# Altium schematic symbol library Shelestov_Connectors.SchLib: 25 symbols
Pins are listed as number, name and electrical type; pins without a type are passive.

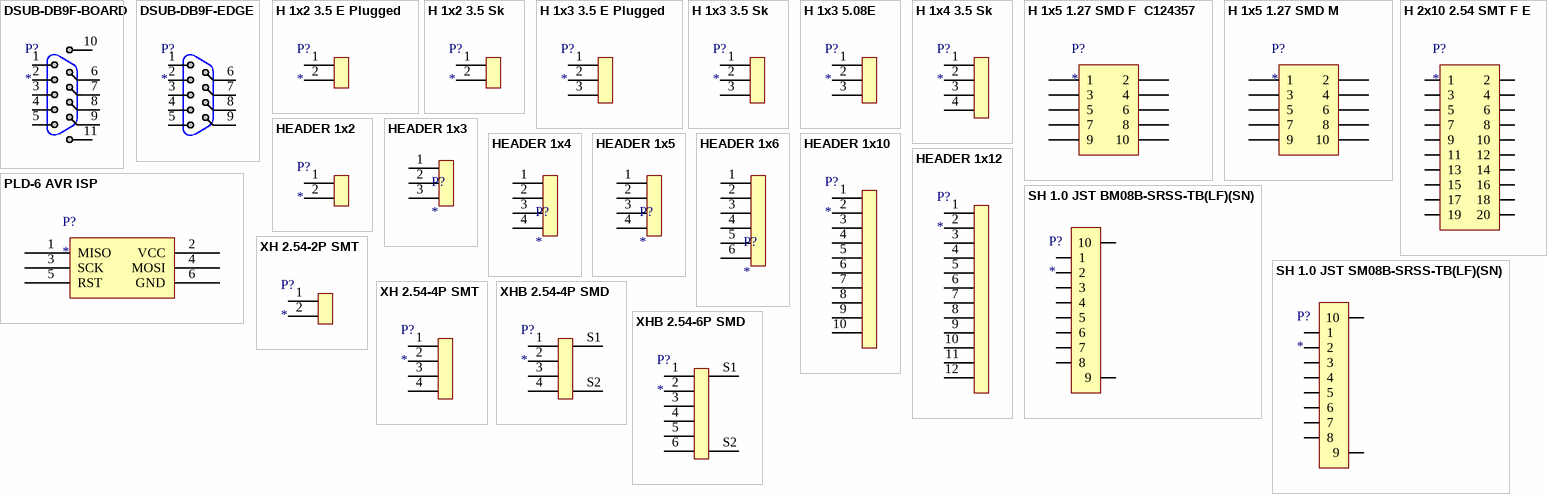
[diagram p0: symbols DSUB-DB9F-BOARD to XHB 2.54-6P SMD]

## DSUB-DB9F-BOARD
designator P?
MP: DS1037-09FNAKT74-0CC; MF: CONNFLY Elec; LCSC: C75749; ComponentLink1Description: URLLCSC; ComponentLink1URL: https://lcsc.com/product-detail/D-Sub-Connectors_CONNFLY-Elec-DS1037-09FNAKT74-0CC_C75749.html; PriceLCSC: 0.2741
footprint DB9F_Board
pins: 1, 2, 3, 4, 5, 6, 7, 8, 9, 10, 11

## DSUB-DB9F-EDGE
designator P?
MP: DS1033-09FUNSiSS-CT; MF: CONNFLY Elec; LCSC: C75748; ComponentLink1Description: URLLCSC; ComponentLink1URL: https://lcsc.com/product-detail/D-Sub-Connectors_CONNFLY-Elec-DS1033-09FUNSiSS-CT_C75748.html; PriceLCSC: 0.1305
footprint DB9F_EDGE
pins: 1, 2, 3, 4, 5, 6, 7, 8, 9

## H 1x2 3.5 E Plugged
designator P?
Degson edge connector 3.5 mm 2 pin; ComponentLink1Description: URLLCSC
footprint WJ15EDGRC-3.5-2P Ningbo
pins: 1, 2

## H 1x2 3.5 Sk
designator P?
MP: 1751248; MF: Phoenix Contact; LCSC: C89122; ComponentLink1Description: URLLCSC; ComponentLink1URL: https://lcsc.com/product-detail/Pluggable-System-Terminal-Block_Phoenix-Contact_MKDS1-2-3-5_Phoenix-Contact-MKDS1-2-3-5_C89122.html; PriceLCSC: 1.0477
footprint 3.5-02P Phoenix Contact 1751248
pins: 1, 2

## H 1x3 3.5 E Plugged
designator P?
MP: 1751251; MF: Phoenix Contact; LCSC: C91152; ComponentLink1Description: URLLCSC; ComponentLink1URL: https://lcsc.com/product-detail/Pluggable-System-Terminal-Block_Phoenix-Contact_MKDS1-3-3-5_Phoenix-Contact-MKDS1-3-3-5_C91152.html; PriceLCSC: 1.6212
footprint WJ15EDGRC-3.5-3P Ningbo
pins: 1, 2, 3

## H 1x3 3.5 Sk
designator P?
MP: 1751251; MF: Phoenix Contact; LCSC: C91152; ComponentLink1Description: URLLCSC; ComponentLink1URL: https://lcsc.com/product-detail/Pluggable-System-Terminal-Block_Phoenix-Contact_MKDS1-3-3-5_Phoenix-Contact-MKDS1-3-3-5_C91152.html; PriceLCSC: 1.6212
footprint 3.5-03P Phoenix Contact 1751251
pins: 1, 2, 3

## H 1x3 5.08E
designator P?
MP: WJ2EDGR-5.08-3P; MF: Ningbo Kangnex Elec; URLLCSC: https://lcsc.com/product-detail/Pluggable-System-Terminal-Block_Ningbo-Kangnex-Elec-WJ2EDGR-5-08-3P_C70914.html; LCSC: C70914
footprint 2EDGR-5.08-03P
pins: 1, 2, 3

## H 1x4 3.5 Sk
designator P?
MP: 1751264; MF: Phoenix Contact; LCSC: C99845; ComponentLink1Description: URLLCSC; ComponentLink1URL: https://lcsc.com/product-detail/Screw-terminal_Phoenix-Contact-1751264_C99845.html; PriceLCSC: 2.0414
footprint 3.5-04P Phoenix Contact 1751264
pins: 1, 2, 3, 4

## H 1x5 1.27 SMD F  C124357
designator P?
MF: Ckmtw(Shenzhen Cankemeng); LCSC: C124357; PriceLCSC: 0.124; ComponentLink1Description: URLLCSC; ComponentLink1URL: https://lcsc.com/product-detail/Pin-Header-Female-Header_Ckmtw-Shenzhen-Cankemeng-Female-header-2-5P-1-27mm_C124357.html
footprint HEADER 2x5 1.27 SMD FEMALE
pins: 1, 2, 3, 4, 5, 6, 7, 8, 9, 10

## H 1x5 1.27 SMD M
designator P?
ComponentLink1Description: URLLCSC
footprint HEADER 2x5 1.27 SMD MALE
pins: 1, 2, 3, 4, 5, 6, 7, 8, 9, 10

## H 2x10 2.54 SMT F E
designator P?
ComponentLink1Description: URLLCSC
footprint HEADER 2x10 2.54 SMT FEMALE EDGE
pins: 1, 2, 3, 4, 5, 6, 7, 8, 9, 10, 11, 12, 13, 14, 15, 16, 17, 18, 19, 20

## HEADER 1x2
designator P?
footprint HEADER 1x2 2.54
footprint HEADER 1x2 2.54 NO PINS
pins: 1, 2

## HEADER 1x3
designator P?
footprint HEADER 1x3_2.54
pins: 1, 2, 3

## HEADER 1x4
designator P?
footprint HEADER 1x4 2.54
pins: 1, 2, 3, 4

## HEADER 1x5
designator P?
pins: 1, 2, 3, 4

## HEADER 1x6
designator P?
footprint HEADER 1x6 2.54
pins: 1, 2, 3, 4, 5, 6

## HEADER 1x10
designator P?
footprint HEADER 1x10 2.0
pins: 1, 2, 3, 4, 5, 6, 7, 8, 9, 10

## HEADER 1x12
designator P?
footprint HEADER 1x12 2.54
footprint HEADER 1x12 2.54 NO PINS
pins: 1, 2, 3, 4, 5, 6, 7, 8, 9, 10, 11, 12

## PLD-6 AVR ISP
designator P?
footprint HEADER 2x3 2.54 AVR ISP
pins: 1 MISO, 2 VCC, 3 SCK, 4 MOSI, 5 RST, 6 GND

## SH 1.0 JST BM08B-SRSS-TB(LF)(SN)
designator P?
MF: JST Sales America; MP: BM08B-SRSS-TB(LF)(SN); LCSC: C160394; PriceLCSC: 0.3186; ComponentLink1Description: URLLCSC; ComponentLink1URL: https://lcsc.com/product-detail/Wire-To-Board-Wire-To-Wire-Connector_JST-Sales-America_BM08B-SRSS-TB-LF-SN_JST-Sales-America-BM08B-SRSS-TB-LF-SN_C160394.html
footprint SH-1.0-VERT-BM08B-SRSS-TB
pins: 1, 2, 3, 4, 5, 6, 7, 8, 9, 10

## SH 1.0 JST SM08B-SRSS-TB(LF)(SN)
designator P?
MF: JST Sales America; MP: BM08B-SRSS-TB(LF)(SN); LCSC: C160407; PriceLCSC: 0.2693; ComponentLink1Description: URLLCSC; ComponentLink1URL: https://lcsc.com/product-detail/Wire-To-Board-Wire-To-Wire-Connector_JST-Sales-America_SM08B-SRSS-TB-LF-SN_JST-Sales-America-SM08B-SRSS-TB-LF-SN_C160407.html
footprint SH-1.0-VERT-SM08B-SRSS-TB
pins: 1, 2, 3, 4, 5, 6, 7, 8, 9, 10

## XH 2.54-2P SMT
designator P?
JST XH 2.54 pin header SMT Vertical; ComponentLink1Description: URLLCSC
footprint XH2.54-2P
pins: 1, 2

## XH 2.54-4P SMT
designator P?
JST XH 2.54 pin header SMT Vertical; ComponentLink1Description: URLLCSC
footprint XH2.54-4P
pins: 1, 2, 3, 4

## XHB 2.54-4P SMD
designator P?
JST XHB 2.54 pin header SMD Horizontal; ComponentLink1Description: URLLCSC
footprint XHB-2.54-4P
pins: 1, 2, 3, 4, S1, S2

## XHB 2.54-6P SMD
designator P?
JST XHB 2.54 pin header SMD Horizontal; ComponentLink1Description: URLLCSC
footprint XHB-2.54-6P
pins: 1, 2, 3, 4, 5, 6, S1, S2